# Altium footprint library 5V Regulator- L7805.PcbLib: 3 footprints
Each footprint in its own frame and in the unit in brackets; x right, y up, seen from the top. Pads: shape width x height; smd on the part's side, far side on the other; paste and mask are expansions set on the pad; w line width, h text height; cw(c..) or ccw(c..) is an arc to the next point about the centre after c.
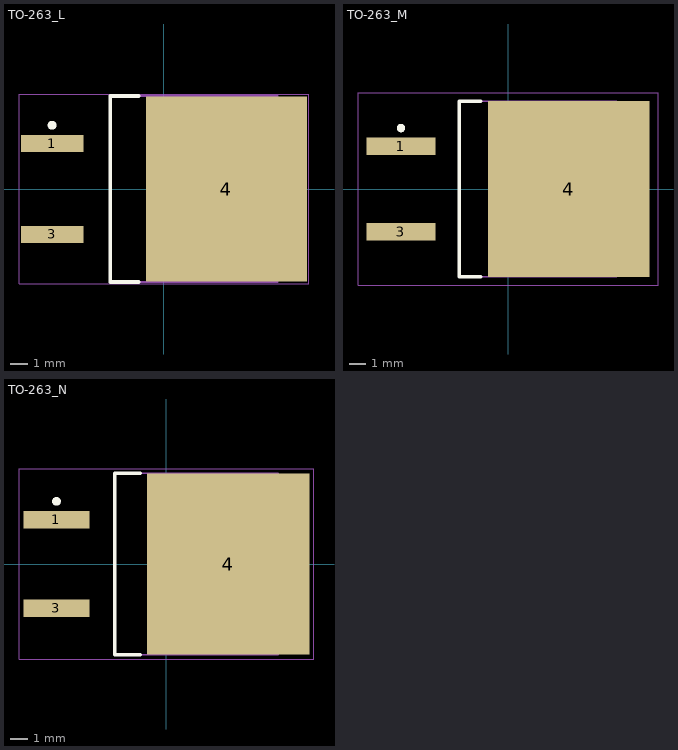
[diagram p0: the footprints below, top view; thin cyan lines are the x and y axes]

## TO-263_L [mm] "D2-PAK, 4-Leads, Body 9.2x10.2mm, Pitch 2.54mm, Lead Span 15.4mm, IPC High Density"
height 4.6
pads (3):
  rect 3.5x0.95 smd: 1(-6.25,2.54) 3(-6.25,-2.54)
  rect 9x10.35 smd: 4(3.5,0)
Top Overlay:
  circle w0.25: c-6.25,3.565 r0.125
  lines w0.2: -1.4,-5.2 -3,-5.2 -3,5.2 -1.4,5.2
Mechanical 13:
  lines w0.1: -3,-5.2 6.35,-5.2 6.35,5.2 -3,5.2 -3,-5.2
Mechanical 15:
  lines w0.05: -8.1,-5.3 8.1,-5.3 8.1,5.3 -8.1,5.3 -8.1,-5.3
  lines w0.1: -0.5,0 0.5,0 ; 0,-0.5 0,0.5
3D body: height 4.6, standoff 0, extent -3,-5.2 6.35,5.2

## TO-263_M [mm] "D2-PAK, 4-Leads, Body 9.2x10.2mm, Pitch 2.54mm, Lead Span 15.4mm, IPC Low Density"
height 4.6
pads (3):
  rect 4.1x1.05 smd: 1(-6.35,2.54) 3(-6.35,-2.54)
  rect 9.6x10.45 smd: 4(3.6,0)
Top Overlay:
  circle w0.25: c-6.35,3.615 r0.125
  lines w0.2: -1.6,-5.2 -2.9,-5.2 -2.9,5.2 -1.6,5.2
Mechanical 13:
  lines w0.1: -2.9,-5.2 6.45,-5.2 6.45,5.2 -2.9,5.2 -2.9,-5.2
Mechanical 15:
  lines w0.05: -8.9,-5.725 8.9,-5.725 8.9,5.725 -8.9,5.725 -8.9,-5.725
  lines w0.1: -0.5,0 0.5,0 ; 0,-0.5 0,0.5
3D body: height 4.6, standoff 0, extent -2.9,-5.2 6.45,5.2

## TO-263_N [mm] "D2-PAK, 4-Leads, Body 9.2x10.2mm, Pitch 2.54mm, Lead Span 15.4mm, IPC Medium Density"
height 4.6
pads (3):
  rect 3.8x1 smd: 1(-6.3,2.54) 3(-6.3,-2.54)
  rect 9.3x10.4 smd: 4(3.55,0)
Top Overlay:
  circle w0.25: c-6.3,3.59 r0.125
  lines w0.2: -1.5,-5.2 -2.95,-5.2 -2.95,5.2 -1.5,5.2
Mechanical 13:
  lines w0.1: -2.95,-5.2 6.4,-5.2 6.4,5.2 -2.95,5.2 -2.95,-5.2
Mechanical 15:
  lines w0.05: -8.45,-5.45 8.45,-5.45 8.45,5.45 -8.45,5.45 -8.45,-5.45
  lines w0.1: -0.5,0 0.5,0 ; 0,-0.5 0,0.5
3D body: height 4.6, standoff 0, extent -2.95,-5.2 6.4,5.2